# Altium footprint library SnapEDApcb.PcbLib: 1 footprints
Each footprint in its own frame and in the unit in brackets; x right, y up, seen from the top. Pads: shape width x height; smd on the part's side, far side on the other; paste and mask are expansions set on the pad; w line width, h text height; cw(c..) or ccw(c..) is an arc to the next point about the centre after c.
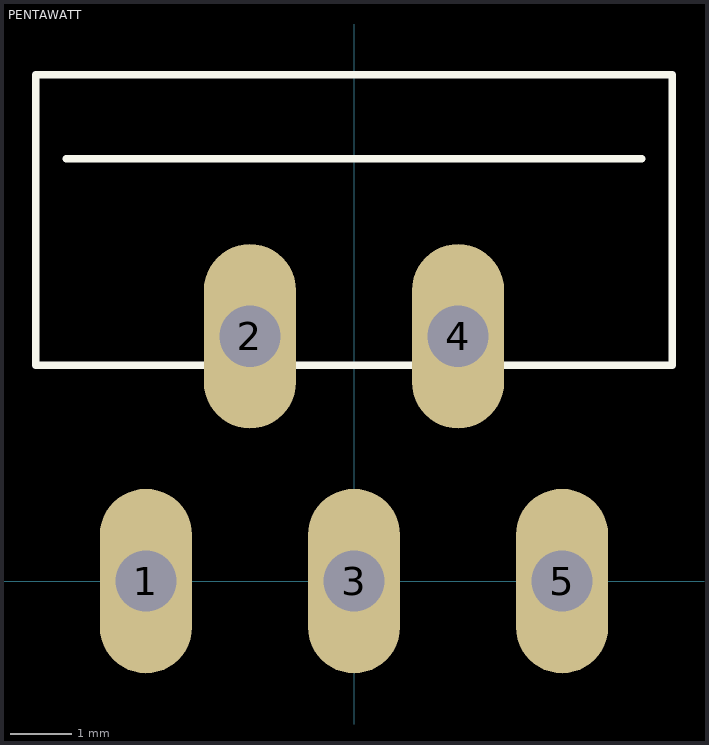
[diagram p0: the footprint, top view; thin cyan lines are the x and y axes]

## PENTAWATT [mm]
pads (5):
  oval 1.508x3.016 hole 1: 1(-3.4,0) 2(-1.7,4) 3(0,0) 4(1.7,4) 5(3.4,0)
Top Overlay:
  lines w0.127: -4.7,6.9 4.7,6.9 ; -5.2,3.525 -5.2,8.275 5.2,8.275 5.2,3.525 -5.2,3.525